# Altium footprint library Con IDC.PcbLib: 105 footprints (part 2 of 7)
Each footprint in its own frame and in the unit in brackets; x right, y up, seen from the top. Pads: shape width x height; smd on the part's side, far side on the other; paste and mask are expansions set on the pad; w line width, h text height; cw(c..) or ccw(c..) is an arc to the next point about the centre after c.
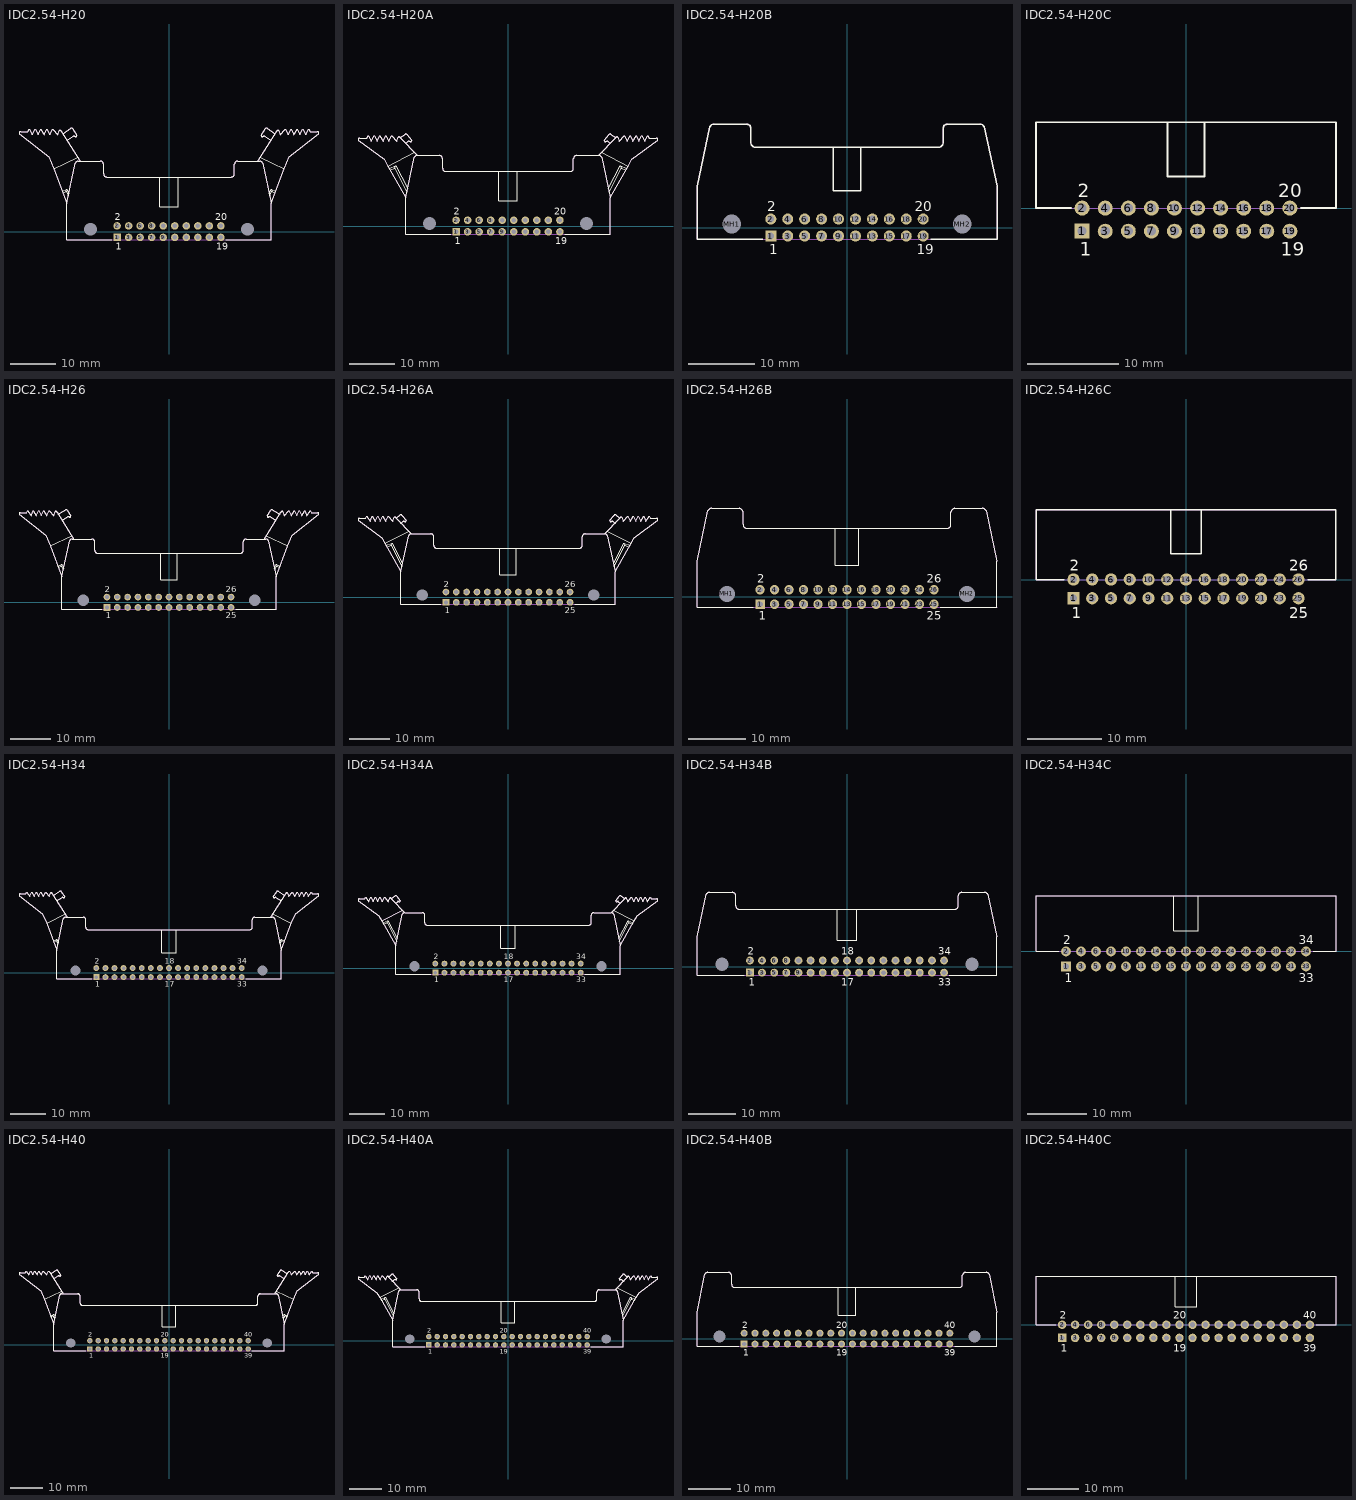
[diagram p1: the footprints below, top view; thin cyan lines are the x and y axes]

## IDC2.54-H20 [mm] "Connector; IDC, Thru-Hole; 20 Position; Right Angle; Pitch 2.54 mm; Body 45.00 x 8.5 x 25.75 mm (LxHxW), Locking levers"
height 8.5
pads (22):
  rect 1.65x1.65 hole 1: 1(-11.43,-1.27)
  round 1.65 hole 1: 2(-11.43,1.27) 3(-8.89,-1.27) 4(-8.89,1.27) 5(-6.35,-1.27) 6(-6.35,1.27) 7(-3.81,-1.27) 8(-3.81,1.27) 9(-1.27,-1.27) 10(-1.27,1.27) 11(1.27,-1.27) 12(1.27,1.27) 13(3.81,-1.27) 14(3.81,1.27) 15(6.35,-1.27) 16(6.35,1.27) 17(8.89,-1.27) 18(8.89,1.27) 19(11.43,-1.27) 20(11.43,1.27)
  round 2.5 hole 2.8 unplated: MH1(-17.27,0.53) MH2(17.27,0.53)
Top Overlay:
  lines w0.2: -23.47,8.851 -22.505,9.3 ; -23.341,8.563 -22.67,8.877 ; -23.335,21.6 -21.612,22.725 cw(c-21.463,22.387) -21.197,22.644 -20.272,21.245 cw(c-20.592,21.225) -20.644,20.91 ccw(c-20.912,20.595) -21.047,20.985 ; -22.413,20.103 -21.05,20.991 ; -22.143,7.925 -22.67,8.877 ; -22.043,8.378 -22.505,9.3 ; -20.61,15.102 -22.5,6.23 ; -20.61,15.102 cw(c-19.965,14.83) -19.95,15.53 ; -20.115,16.383 -25.339,13.84 ; -19.94,15.53 -15.115,15.53 ; -19.544,15.53 -23.678,22.058 ccw(c-24.001,21.956) -24.143,22.265 -24.55,21.301 -25.58,22.501 -26.21,21.301 -26.96,22.501 -27.51,21.301 -28.21,22.501 -28.83,21.301 -29.48,22.501 -30.08,21.301 -30.825,22.501 ; -15.115,15.53 cw(c-15.115,14.83) -14.415,14.83 -14.415,12.73 ccw(c-13.715,12.73) -13.715,12.03 13.715,12.03 ccw(c13.715,12.73) 14.415,12.73 14.415,14.83 cw(c15.115,14.83) 15.115,15.53 19.94,15.53 ; -12.655,-1.77 -22.5,-1.77 -22.5,6.23 ; -2.05,5.53 -2.05,12.03 ; -2.04,5.53 2.06,5.53 ; 2.05,5.534 2.05,12.03 ; 12.54,-1.77 22.5,-1.77 22.5,6.23 ; 19.544,15.53 23.678,22.058 cw(c24.001,21.956) 24.143,22.265 24.55,21.301 25.58,22.501 26.21,21.301 26.96,22.501 27.51,21.301 28.21,22.501 28.83,21.301 29.48,22.501 30.08,21.301 30.825,22.501 ; 19.95,15.53 cw(c19.965,14.83) 20.61,15.102 22.5,6.23 ; 20.115,16.383 25.339,13.84 ; 21.047,20.985 ccw(c20.912,20.595) 20.644,20.91 cw(c20.592,21.225) 20.272,21.245 21.197,22.644 cw(c21.463,22.387) 21.612,22.725 23.335,21.6 ; 21.05,20.991 22.413,20.103 ; 22.043,8.378 22.505,9.3 ; 22.143,7.925 22.67,8.877 ; 23.341,8.563 22.67,8.877 ; 23.47,8.851 22.505,9.3 ; -31.08,22.03 -32.691,22.03 ccw(c-32.691,21.69) -33,21.549 -26.465,16.455 -25.339,13.84 ; -31.08,22.03 -30.825,22.501 ; -31.08,22.03 -30.825,22.501 ; -25.339,13.84 -22.5,6.23 ; -22.67,8.877 -22.505,9.3 ; 22.5,6.23 25.339,13.84 ; 22.505,9.3 22.67,8.877 ; 25.339,13.84 26.465,16.455 33,21.549 ccw(c32.691,21.69) 32.691,22.03 31.08,22.03 ; 30.825,22.501 31.08,22.03 ; 30.825,22.501 31.08,22.03
  text "2" at -11.93,2.47 h1.5
  text "1" at -11.68,-3.97 h1.5
  text "20" at 10.18,2.47 h1.5
  text "19" at 10.43,-3.97 h1.5
Mechanical 13:
  lines w0.1: -23.335,21.6 -21.612,22.725 cw(c-21.463,22.387) -21.197,22.644 -20.272,21.245 cw(c-20.592,21.225) -20.644,20.91 ccw(c-20.912,20.595) -21.047,20.985 ; -22.413,20.103 -21.05,20.991 ; -20.61,15.102 -22.5,6.23 ; -20.61,15.102 cw(c-19.965,14.83) -19.95,15.53 ; -19.94,15.53 -15.115,15.53 ; -19.544,15.53 -23.678,22.058 ccw(c-24.001,21.956) -24.143,22.265 -24.55,21.301 -25.58,22.501 -26.21,21.301 -26.96,22.501 -27.51,21.301 -28.21,22.501 -28.83,21.301 -29.48,22.501 -30.08,21.301 -30.825,22.501 ; -15.115,15.53 cw(c-15.115,14.83) -14.415,14.83 -14.415,12.73 ccw(c-13.715,12.73) -13.715,12.03 13.715,12.03 ccw(c13.715,12.73) 14.415,12.73 14.415,14.83 cw(c15.115,14.83) 15.115,15.53 19.94,15.53 ; 19.544,15.53 23.678,22.058 cw(c24.001,21.956) 24.143,22.265 24.55,21.301 25.58,22.501 26.21,21.301 26.96,22.501 27.51,21.301 28.21,22.501 28.83,21.301 29.48,22.501 30.08,21.301 30.825,22.501 ; 19.95,15.53 cw(c19.965,14.83) 20.61,15.102 22.5,6.23 ; 21.047,20.985 ccw(c20.912,20.595) 20.644,20.91 cw(c20.592,21.225) 20.272,21.245 21.197,22.644 cw(c21.463,22.387) 21.612,22.725 23.335,21.6 ; 21.05,20.991 22.413,20.103 ; -31.08,22.03 -30.825,22.501 ; -31.08,22.03 -32.691,22.03 ccw(c-32.691,21.69) -33,21.549 -26.465,16.455 -25.339,13.84 -22.5,6.23 ; -31.08,22.03 -30.825,22.501 ; -22.5,6.23 -22.5,-1.77 22.5,-1.77 22.5,6.23 ; 22.5,6.23 25.339,13.84 26.465,16.455 33,21.549 ccw(c32.691,21.69) 32.691,22.03 31.08,22.03 ; 30.825,22.501 31.08,22.03 ; 30.825,22.501 31.08,22.03
3D body: height 8.5, standoff 0, extent -22.501,-1.771 22.501,15.537

## IDC2.54-H20A [mm] "Connector; IDC, Thru-Hole; 20 Position; Right Angle; Pitch 2.54 mm; Body 45.00 x 8.5 x 23.30 mm (LxHxW), Locking levers"
height 8.5
pads (22):
  rect 1.65x1.65 hole 1: 1(-11.43,-1.27)
  round 1.65 hole 1: 2(-11.43,1.27) 3(-8.89,-1.27) 4(-8.89,1.27) 5(-6.35,-1.27) 6(-6.35,1.27) 7(-3.81,-1.27) 8(-3.81,1.27) 9(-1.27,-1.27) 10(-1.27,1.27) 11(1.27,-1.27) 12(1.27,1.27) 13(3.81,-1.27) 14(3.81,1.27) 15(6.35,-1.27) 16(6.35,1.27) 17(8.89,-1.27) 18(8.89,1.27) 19(11.43,-1.27) 20(11.43,1.27)
  round 2.5 hole 2.8 unplated: MH1(-17.27,0.53) MH2(17.27,0.53)
Top Overlay:
  lines w0.2: -26.169,12.722 -24.681,13.218 ; -25.941,12.377 -24.923,12.716 ; -22.538,18.198 -21.973,18.617 cw(c-21.837,18.227) -21.57,18.542 ccw(c-21.517,18.857) -21.198,18.877 -22.257,20.156 ccw(c-22.523,19.899) -22.672,20.238 -23.678,19.388 ; -22.253,7.442 -24.923,12.716 ; -22.106,8.195 -24.681,13.218 ; -20.62,16.204 -26.439,13.199 ; -20.007,15.533 -23.678,19.388 ; -20,15.53 -15.115,15.53 cw(c-15.115,14.83) -14.415,14.83 -14.415,12.73 ccw(c-13.715,12.73) -13.715,12.03 13.715,12.03 ccw(c13.715,12.73) 14.415,12.73 14.415,14.83 cw(c15.115,14.83) 15.115,15.53 20,15.53 ; -19.95,15.53 ccw(c-19.965,14.83) -20.61,15.102 -22.5,6.23 ; -12.655,-1.77 -22.5,-1.77 -22.5,6.23 ; -2.05,5.53 -2.05,12.03 ; -2.04,5.53 2.06,5.53 ; 2.05,5.534 2.05,12.03 ; 12.54,-1.77 22.5,-1.77 22.5,6.23 ; 19.95,15.53 cw(c19.965,14.83) 20.61,15.102 22.5,6.23 ; 20.007,15.533 23.678,19.388 ; 20.62,16.204 26.439,13.199 ; 22.106,8.195 24.681,13.218 ; 22.253,7.442 24.923,12.716 ; 22.538,18.198 21.973,18.617 ccw(c21.837,18.227) 21.57,18.542 cw(c21.517,18.857) 21.198,18.877 22.257,20.156 cw(c22.523,19.899) 22.672,20.238 23.678,19.388 ; 25.941,12.377 24.923,12.716 ; 26.169,12.722 24.681,13.218 ; -31.08,19.359 -30.824,19.83 ; -31.08,19.359 -30.824,19.83 ; -31.08,19.359 -32.691,19.359 ccw(c-32.691,19.02) -33,18.879 -27.245,14.654 -26.439,13.199 ; -30.824,19.83 -30.08,18.63 -29.48,19.83 -28.83,18.63 -28.21,19.83 -27.51,18.63 -26.96,19.83 -26.21,18.63 -25.58,19.83 -24.55,18.63 -24.143,19.594 cw(c-24.001,19.285) -23.678,19.388 ; -26.439,13.199 -22.5,6.23 ; -24.923,12.716 -24.681,13.218 ; 22.5,6.23 26.439,13.199 ; 23.678,19.388 cw(c24.001,19.285) 24.143,19.594 24.55,18.63 25.58,19.83 26.21,18.63 26.96,19.83 27.51,18.63 28.21,19.83 28.83,18.63 29.48,19.83 30.08,18.63 30.824,19.83 ; 24.681,13.218 24.923,12.716 ; 26.439,13.199 27.245,14.654 33,18.879 ccw(c32.691,19.02) 32.691,19.359 31.08,19.359 ; 30.824,19.83 31.08,19.359 ; 30.824,19.83 31.08,19.359
  text "2" at -11.93,2.47 h1.5
  text "1" at -11.68,-3.97 h1.5
  text "20" at 10.18,2.47 h1.5
  text "19" at 10.43,-3.97 h1.5
Mechanical 13:
  lines w0.1: -22.538,18.198 -21.973,18.617 cw(c-21.837,18.227) -21.57,18.542 ccw(c-21.517,18.857) -21.198,18.877 -22.257,20.156 ccw(c-22.523,19.899) -22.672,20.238 -23.678,19.388 ; -20.007,15.533 -23.678,19.388 ; -20,15.53 -15.115,15.53 cw(c-15.115,14.83) -14.415,14.83 -14.415,12.73 ccw(c-13.715,12.73) -13.715,12.03 13.715,12.03 ccw(c13.715,12.73) 14.415,12.73 14.415,14.83 cw(c15.115,14.83) 15.115,15.53 20,15.53 ; -19.95,15.53 ccw(c-19.965,14.83) -20.61,15.102 -22.5,6.23 ; 19.95,15.53 cw(c19.965,14.83) 20.61,15.102 22.5,6.23 ; 20.007,15.533 23.678,19.388 ; 22.538,18.198 21.973,18.617 ccw(c21.837,18.227) 21.57,18.542 cw(c21.517,18.857) 21.198,18.877 22.257,20.156 cw(c22.523,19.899) 22.672,20.238 23.678,19.388 ; -31.08,19.359 -30.824,19.83 ; -31.08,19.359 -32.691,19.359 ccw(c-32.691,19.02) -33,18.879 -27.245,14.654 -26.439,13.199 -22.5,6.23 ; -31.08,19.359 -30.824,19.83 ; -30.824,19.83 -30.08,18.63 -29.48,19.83 -28.83,18.63 -28.21,19.83 -27.51,18.63 -26.96,19.83 -26.21,18.63 -25.58,19.83 -24.55,18.63 -24.143,19.594 cw(c-24.001,19.285) -23.678,19.388 ; -22.5,6.23 -22.5,-1.77 22.5,-1.77 22.5,6.23 ; 22.5,6.23 26.439,13.199 27.245,14.654 33,18.879 ccw(c32.691,19.02) 32.691,19.359 31.08,19.359 ; 23.678,19.388 cw(c24.001,19.285) 24.143,19.594 24.55,18.63 25.58,19.83 26.21,18.63 26.96,19.83 27.51,18.63 28.21,19.83 28.83,18.63 29.48,19.83 30.08,18.63 30.824,19.83 ; 30.824,19.83 31.08,19.359 ; 30.824,19.83 31.08,19.359
3D body: height 8.5, standoff 0, extent -22.501,-1.771 22.501,15.537

## IDC2.54-H20B [mm] "Connector; IDC, Thru-Hole; 20 Position; Right Angle; Pitch 2.54 mm; Body 45.00 x 8.5 x 17.30 mm (LxHxW), Without locking levers"
height 8.5
pads (22):
  rect 1.65x1.65 hole 1: 1(-11.43,-1.27)
  round 1.65 hole 1: 2(-11.43,1.27) 3(-8.89,-1.27) 4(-8.89,1.27) 5(-6.35,-1.27) 6(-6.35,1.27) 7(-3.81,-1.27) 8(-3.81,1.27) 9(-1.27,-1.27) 10(-1.27,1.27) 11(1.27,-1.27) 12(1.27,1.27) 13(3.81,-1.27) 14(3.81,1.27) 15(6.35,-1.27) 16(6.35,1.27) 17(8.89,-1.27) 18(8.89,1.27) 19(11.43,-1.27) 20(11.43,1.27)
  round 2.5 hole 2.8 unplated: MH1(-17.27,0.53) MH2(17.27,0.53)
Top Overlay:
  lines w0.2: -12.655,-1.77 -22.5,-1.77 -22.5,6.23 -20.6,15.102 cw(c-19.955,14.83) -19.94,15.53 -15.115,15.53 cw(c-15.115,14.83) -14.415,14.83 -14.415,12.73 ccw(c-13.715,12.73) -13.715,12.03 13.715,12.03 ccw(c13.715,12.73) 14.415,12.73 14.415,14.83 cw(c15.115,14.83) 15.115,15.53 19.94,15.53 cw(c19.955,14.83) 20.6,15.102 22.5,6.23 22.5,-1.77 12.54,-1.77 ; -2.05,5.53 -2.05,12.03 ; -2.04,5.53 2.06,5.53 ; 2.05,5.534 2.05,12.03
  text "19" at 10.43,-3.97 h1.5
  text "20" at 10.18,2.47 h1.5
  text "1" at -11.68,-3.97 h1.5
  text "2" at -11.93,2.47 h1.5
Mechanical 13:
  lines w0.1: -22.5,-1.77 22.5,-1.77 22.5,6.23 20.6,15.102 ccw(c19.955,14.83) 19.94,15.53 15.115,15.53 ccw(c15.115,14.83) 14.415,14.83 14.415,12.73 cw(c13.715,12.73) 13.715,12.03 -13.715,12.03 cw(c-13.715,12.73) -14.415,12.73 -14.415,14.83 ccw(c-15.115,14.83) -15.115,15.53 -19.94,15.53 ccw(c-19.955,14.83) -20.6,15.102 -22.5,6.23 -22.5,-1.77
3D body: height 8.5, standoff 0, extent -22.501,-1.771 22.501,15.537

## IDC2.54-H20C [mm] "Connector; IDC, Low Profile Male Header, Thru-Hole; 20 Position; Right Angle; Pitch 2.54 mm; Body 33.02 x 8.9 x 9.2 mm (LxWxH)"
height 9.2
pads (20):
  rect 1.65x1.65 hole 1: 1(-11.43,-2.54)
  round 1.65 hole 1: 2(-11.43,0) 3(-8.89,-2.54) 4(-8.89,0) 5(-6.35,-2.54) 6(-6.35,0) 7(-3.81,-2.54) 8(-3.81,0) 9(-1.27,-2.54) 10(-1.27,0) 11(1.27,-2.54) 12(1.27,0) 13(3.81,-2.54) 14(3.81,0) 15(6.35,-2.54) 16(6.35,0) 17(8.89,-2.54) 18(8.89,0) 19(11.43,-2.54) 20(11.43,0)
Top Overlay:
  lines w0.2: -12.655,0 -16.51,0 -16.51,9.45 16.51,9.45 16.51,0 12.655,0 ; -2.05,9.45 -2.05,3.48 2.05,3.48 2.05,9.45
  text "19" at 10.43,-5.24 h1.5
  text "20" at 10.18,1.2 h1.5
  text "1" at -11.68,-5.24 h1.5
  text "2" at -11.93,1.2 h1.5
Mechanical 13:
  lines w0.1: -16.51,0 16.51,0 16.51,9.45 -16.51,9.45 -16.51,0
3D body: height 9.2, standoff 0, extent -16.51,0 16.51,9.45

## IDC2.54-H26 [mm] "Connector; IDC, Thru-Hole; 26 Position; Right Angle; Pitch 2.54 mm; Body 52.60 x 8.5 x 25.75 mm (LxHxW), Locking levers"
height 8.5
pads (28):
  rect 1.65x1.65 hole 1: 1(-15.24,-1.27)
  round 1.65 hole 1: 2(-15.24,1.27) 3(-12.7,-1.27) 4(-12.7,1.27) 5(-10.16,-1.27) 6(-10.16,1.27) 7(-7.62,-1.27) 8(-7.62,1.27) 9(-5.08,-1.27) 10(-5.08,1.27) 11(-2.54,-1.27) 12(-2.54,1.27) 13(0,-1.27) 14(0,1.27) 15(2.54,-1.27) 16(2.54,1.27) 17(5.08,-1.27) 18(5.08,1.27) 19(7.62,-1.27) 20(7.62,1.27) 21(10.16,-1.27) 22(10.16,1.27) 23(12.7,-1.27) 24(12.7,1.27) 25(15.24,-1.27) 26(15.24,1.27)
  round 2.5 hole 2.8 unplated: MH1(-21.08,0.53) MH2(21.08,0.53)
Top Overlay:
  lines w0.2: -27.27,8.851 -26.305,9.3 ; -27.141,8.563 -26.47,8.877 ; -27.135,21.6 -25.412,22.725 cw(c-25.263,22.387) -24.997,22.644 -24.072,21.245 cw(c-24.392,21.225) -24.444,20.91 ccw(c-24.712,20.595) -24.847,20.985 ; -26.213,20.103 -24.85,20.991 ; -25.943,7.925 -26.47,8.877 ; -25.843,8.378 -26.305,9.3 ; -23.915,16.383 -29.139,13.84 ; -23.344,15.53 -27.478,22.058 ccw(c-27.801,21.956) -27.943,22.265 -28.35,21.301 -29.38,22.501 -30.01,21.301 -30.76,22.501 -31.31,21.301 -32.01,22.501 -32.63,21.301 -33.28,22.501 -33.88,21.301 -34.625,22.501 ; -18.925,15.53 cw(c-18.925,14.83) -18.225,14.83 -18.225,12.73 ccw(c-17.525,12.73) -17.525,12.03 17.525,12.03 ccw(c17.525,12.73) 18.225,12.73 18.225,14.83 cw(c18.925,14.83) 18.925,15.53 23.75,15.53 cw(c23.765,14.83) 24.41,15.102 26.3,6.23 ; -18.925,15.53 -23.75,15.53 ccw(c-23.765,14.83) -24.41,15.102 -26.3,6.23 ; -16.465,-1.77 -26.3,-1.77 -26.3,6.23 ; -2.05,5.53 -2.05,12.03 ; -2.04,5.53 2.06,5.53 ; 2.05,5.534 2.05,12.03 ; 16.35,-1.77 26.3,-1.77 26.3,6.23 ; 23.344,15.53 27.478,22.058 cw(c27.801,21.956) 27.943,22.265 28.35,21.301 29.38,22.501 30.01,21.301 30.76,22.501 31.31,21.301 32.01,22.501 32.63,21.301 33.28,22.501 33.88,21.301 34.624,22.501 ; 23.915,16.383 29.139,13.84 ; 24.847,20.985 ccw(c24.712,20.595) 24.444,20.91 cw(c24.392,21.225) 24.072,21.245 24.997,22.644 cw(c25.263,22.387) 25.412,22.725 27.135,21.6 ; 24.85,20.991 26.213,20.103 ; 25.843,8.378 26.305,9.3 ; 25.943,7.925 26.47,8.877 ; 27.141,8.563 26.47,8.877 ; 27.27,8.851 26.305,9.3 ; -34.88,22.03 -36.491,22.03 ccw(c-36.491,21.69) -36.8,21.549 -30.265,16.455 -29.139,13.84 ; -34.88,22.03 -34.625,22.501 ; -34.88,22.03 -34.625,22.501 ; -29.139,13.84 -26.3,6.23 ; -26.47,8.877 -26.305,9.3 ; 26.3,6.23 29.139,13.84 ; 26.305,9.3 26.47,8.877 ; 29.139,13.84 30.265,16.455 36.8,21.549 ccw(c36.491,21.69) 36.491,22.03 34.88,22.03 ; 34.624,22.501 34.88,22.03 ; 34.624,22.501 34.88,22.03
  text "2" at -15.74,2.47 h1.5
  text "1" at -15.49,-3.97 h1.5
  text "26" at 13.99,2.47 h1.5
  text "25" at 13.99,-3.97 h1.5
Mechanical 13:
  lines w0.1: -27.135,21.6 -25.412,22.725 cw(c-25.263,22.387) -24.997,22.644 -24.072,21.245 cw(c-24.392,21.225) -24.444,20.91 ccw(c-24.712,20.595) -24.847,20.985 ; -26.213,20.103 -24.85,20.991 ; -23.344,15.53 -27.478,22.058 ccw(c-27.801,21.956) -27.943,22.265 -28.35,21.301 -29.38,22.501 -30.01,21.301 -30.76,22.501 -31.31,21.301 -32.01,22.501 -32.63,21.301 -33.28,22.501 -33.88,21.301 -34.625,22.501 ; -18.925,15.53 cw(c-18.925,14.83) -18.225,14.83 -18.225,12.73 ccw(c-17.525,12.73) -17.525,12.03 17.525,12.03 ccw(c17.525,12.73) 18.225,12.73 18.225,14.83 cw(c18.925,14.83) 18.925,15.53 23.75,15.53 cw(c23.765,14.83) 24.41,15.102 26.3,6.23 ; -18.925,15.53 -23.75,15.53 ccw(c-23.765,14.83) -24.41,15.102 -26.3,6.23 ; 23.344,15.53 27.478,22.058 cw(c27.801,21.956) 27.943,22.265 28.35,21.301 29.38,22.501 30.01,21.301 30.76,22.501 31.31,21.301 32.01,22.501 32.63,21.301 33.28,22.501 33.88,21.301 34.624,22.501 ; 24.847,20.985 ccw(c24.712,20.595) 24.444,20.91 cw(c24.392,21.225) 24.072,21.245 24.997,22.644 cw(c25.263,22.387) 25.412,22.725 27.135,21.6 ; 24.85,20.991 26.213,20.103 ; -34.88,22.03 -34.625,22.501 ; -34.88,22.03 -36.491,22.03 ccw(c-36.491,21.69) -36.8,21.549 -30.265,16.455 -29.139,13.84 -26.3,6.23 ; -34.88,22.03 -34.625,22.501 ; -26.3,6.23 -26.3,-1.77 26.3,-1.77 26.3,6.23 ; 26.3,6.23 29.139,13.84 30.265,16.455 36.8,21.549 ccw(c36.491,21.69) 36.491,22.03 34.88,22.03 ; 34.624,22.501 34.88,22.03 ; 34.624,22.501 34.88,22.03
3D body: height 8.5, standoff 0, extent -26.301,-1.771 26.301,15.537

## IDC2.54-H26A [mm] "Connector; IDC, Thru-Hole; 26 Position; Right Angle; Pitch 2.54 mm; Body 52.60 x 8.5 x 23.30 mm (LxHxW), Locking levers"
height 8.5
pads (28):
  rect 1.65x1.65 hole 1: 1(-15.24,-1.27)
  round 1.65 hole 1: 2(-15.24,1.27) 3(-12.7,-1.27) 4(-12.7,1.27) 5(-10.16,-1.27) 6(-10.16,1.27) 7(-7.62,-1.27) 8(-7.62,1.27) 9(-5.08,-1.27) 10(-5.08,1.27) 11(-2.54,-1.27) 12(-2.54,1.27) 13(0,-1.27) 14(0,1.27) 15(2.54,-1.27) 16(2.54,1.27) 17(5.08,-1.27) 18(5.08,1.27) 19(7.62,-1.27) 20(7.62,1.27) 21(10.16,-1.27) 22(10.16,1.27) 23(12.7,-1.27) 24(12.7,1.27) 25(15.24,-1.27) 26(15.24,1.27)
  round 2.5 hole 2.8 unplated: MH1(-21.08,0.53) MH2(21.08,0.53)
Top Overlay:
  lines w0.2: -29.969,12.722 -28.481,13.218 ; -29.741,12.377 -28.723,12.716 ; -26.338,18.198 -25.773,18.617 cw(c-25.637,18.227) -25.37,18.542 ccw(c-25.317,18.857) -24.998,18.877 -26.057,20.156 ccw(c-26.323,19.899) -26.472,20.238 -27.478,19.388 ; -26.053,7.442 -28.723,12.716 ; -25.906,8.195 -28.481,13.218 ; -24.42,16.204 -30.239,13.199 ; -23.807,15.533 -27.478,19.388 ; -18.925,15.53 cw(c-18.925,14.83) -18.225,14.83 -18.225,12.73 ccw(c-17.525,12.73) -17.525,12.03 17.525,12.03 ccw(c17.525,12.73) 18.225,12.73 18.225,14.83 cw(c18.925,14.83) 18.925,15.53 23.75,15.53 cw(c23.765,14.83) 24.41,15.102 26.3,6.23 ; -18.925,15.53 -23.75,15.53 ccw(c-23.765,14.83) -24.41,15.102 -26.3,6.23 ; -16.465,-1.77 -26.3,-1.77 -26.3,6.23 ; -2.05,5.53 -2.05,12.03 ; -2.04,5.53 2.06,5.53 ; 2.05,5.534 2.05,12.03 ; 16.35,-1.77 26.3,-1.77 26.3,6.23 ; 23.807,15.533 27.478,19.388 ; 24.42,16.204 30.239,13.199 ; 25.906,8.195 28.481,13.218 ; 26.053,7.442 28.723,12.716 ; 26.338,18.198 25.773,18.617 ccw(c25.637,18.227) 25.37,18.542 cw(c25.317,18.857) 24.998,18.877 26.057,20.156 cw(c26.323,19.899) 26.472,20.238 27.478,19.388 ; 29.741,12.377 28.723,12.716 ; 29.969,12.722 28.481,13.218 ; -34.88,19.359 -34.624,19.83 ; -34.88,19.359 -34.624,19.83 ; -34.88,19.359 -36.491,19.359 ccw(c-36.491,19.02) -36.8,18.879 -31.045,14.654 -30.239,13.199 ; -34.624,19.83 -33.88,18.63 -33.28,19.83 -32.63,18.63 -32.01,19.83 -31.31,18.63 -30.76,19.83 -30.01,18.63 -29.38,19.83 -28.35,18.63 -27.943,19.594 cw(c-27.801,19.285) -27.478,19.388 ; -30.239,13.199 -26.3,6.23 ; -28.723,12.716 -28.481,13.218 ; 26.3,6.23 30.239,13.199 ; 27.478,19.388 cw(c27.801,19.285) 27.943,19.594 28.35,18.63 29.38,19.83 30.01,18.63 30.76,19.83 31.31,18.63 32.01,19.83 32.63,18.63 33.28,19.83 33.88,18.63 34.624,19.83 ; 28.481,13.218 28.723,12.716 ; 30.239,13.199 31.045,14.654 36.8,18.879 ccw(c36.491,19.02) 36.491,19.359 34.88,19.359 ; 34.624,19.83 34.88,19.359 ; 34.624,19.83 34.88,19.359
  text "2" at -15.74,2.47 h1.5
  text "1" at -15.49,-3.97 h1.5
  text "26" at 13.99,2.47 h1.5
  text "25" at 13.99,-3.97 h1.5
Mechanical 13:
  lines w0.1: -26.338,18.198 -25.773,18.617 cw(c-25.637,18.227) -25.37,18.542 ccw(c-25.317,18.857) -24.998,18.877 -26.057,20.156 ccw(c-26.323,19.899) -26.472,20.238 -27.478,19.388 ; -23.807,15.533 -27.478,19.388 ; -18.925,15.53 cw(c-18.925,14.83) -18.225,14.83 -18.225,12.73 ccw(c-17.525,12.73) -17.525,12.03 17.525,12.03 ccw(c17.525,12.73) 18.225,12.73 18.225,14.83 cw(c18.925,14.83) 18.925,15.53 23.75,15.53 cw(c23.765,14.83) 24.41,15.102 26.3,6.23 ; -18.925,15.53 -23.75,15.53 ccw(c-23.765,14.83) -24.41,15.102 -26.3,6.23 ; 23.807,15.533 27.478,19.388 ; 26.338,18.198 25.773,18.617 ccw(c25.637,18.227) 25.37,18.542 cw(c25.317,18.857) 24.998,18.877 26.057,20.156 cw(c26.323,19.899) 26.472,20.238 27.478,19.388 ; -34.88,19.359 -34.624,19.83 ; -34.88,19.359 -36.491,19.359 ccw(c-36.491,19.02) -36.8,18.879 -31.045,14.654 -30.239,13.199 -26.3,6.23 ; -34.88,19.359 -34.624,19.83 ; -34.624,19.83 -33.88,18.63 -33.28,19.83 -32.63,18.63 -32.01,19.83 -31.31,18.63 -30.76,19.83 -30.01,18.63 -29.38,19.83 -28.35,18.63 -27.943,19.594 cw(c-27.801,19.285) -27.478,19.388 ; -26.3,6.23 -26.3,-1.77 26.3,-1.77 26.3,6.23 ; 26.3,6.23 30.239,13.199 31.045,14.654 36.8,18.879 ccw(c36.491,19.02) 36.491,19.359 34.88,19.359 ; 27.478,19.388 cw(c27.801,19.285) 27.943,19.594 28.35,18.63 29.38,19.83 30.01,18.63 30.76,19.83 31.31,18.63 32.01,19.83 32.63,18.63 33.28,19.83 33.88,18.63 34.624,19.83 ; 34.624,19.83 34.88,19.359 ; 34.624,19.83 34.88,19.359
3D body: height 8.5, standoff 0, extent -26.301,-1.771 26.301,15.537

## IDC2.54-H26B [mm] "Connector; IDC, Thru-Hole; 26 Position; Right Angle; Pitch 2.54 mm; Body 52.60 x 8.5 x 17.30 mm (LxHxW), Without locking levers"
height 8.5
pads (28):
  rect 1.65x1.65 hole 1: 1(-15.24,-1.27)
  round 1.65 hole 1: 2(-15.24,1.27) 3(-12.7,-1.27) 4(-12.7,1.27) 5(-10.16,-1.27) 6(-10.16,1.27) 7(-7.62,-1.27) 8(-7.62,1.27) 9(-5.08,-1.27) 10(-5.08,1.27) 11(-2.54,-1.27) 12(-2.54,1.27) 13(0,-1.27) 14(0,1.27) 15(2.54,-1.27) 16(2.54,1.27) 17(5.08,-1.27) 18(5.08,1.27) 19(7.62,-1.27) 20(7.62,1.27) 21(10.16,-1.27) 22(10.16,1.27) 23(12.7,-1.27) 24(12.7,1.27) 25(15.24,-1.27) 26(15.24,1.27)
  round 2.5 hole 2.8 unplated: MH1(-21.08,0.53) MH2(21.08,0.53)
Top Overlay:
  lines w0.2: -18.925,15.53 cw(c-18.925,14.83) -18.225,14.83 -18.225,12.73 ccw(c-17.525,12.73) -17.525,12.03 17.525,12.03 ccw(c17.525,12.73) 18.225,12.73 18.225,14.83 cw(c18.925,14.83) 18.925,15.53 23.75,15.53 cw(c23.765,14.83) 24.41,15.102 26.3,6.23 26.3,-1.77 16.35,-1.77 ; -18.925,15.53 -23.75,15.53 ccw(c-23.765,14.83) -24.41,15.102 -26.3,6.23 -26.3,-1.77 -16.465,-1.77 ; -2.05,5.53 -2.05,12.03 ; -2.04,5.53 2.06,5.53 ; 2.05,5.534 2.05,12.03
  text "2" at -15.74,2.47 h1.5
  text "1" at -15.49,-3.97 h1.5
  text "26" at 13.99,2.47 h1.5
  text "25" at 13.99,-3.97 h1.5
Mechanical 13:
  lines w0.1: -18.925,15.53 cw(c-18.925,14.83) -18.225,14.83 -18.225,12.73 ccw(c-17.525,12.73) -17.525,12.03 17.525,12.03 ccw(c17.525,12.73) 18.225,12.73 18.225,14.83 cw(c18.925,14.83) 18.925,15.53 23.75,15.53 cw(c23.765,14.83) 24.41,15.102 26.3,6.23 26.3,-1.77 -26.3,-1.77 -26.3,6.23 -24.41,15.102 cw(c-23.765,14.83) -23.75,15.53 -18.925,15.53
3D body: height 8.5, standoff 0, extent -26.301,-1.771 26.301,15.537

## IDC2.54-H26C [mm] "Connector; IDC, Low Profile Male Header, Thru-Hole; 26 Position; Right Angle; Pitch 2.54 mm; Body 40.64 x 8.9 x 9.2 mm (LxWxH)"
height 9.2
pads (26):
  rect 1.65x1.65 hole 1: 1(-15.24,-2.54)
  round 1.65 hole 1: 2(-15.24,0) 3(-12.7,-2.54) 4(-12.7,0) 5(-10.16,-2.54) 6(-10.16,0) 7(-7.62,-2.54) 8(-7.62,0) 9(-5.08,-2.54) 10(-5.08,0) 11(-2.54,-2.54) 12(-2.54,0) 13(0,-2.54) 14(0,0) 15(2.54,-2.54) 16(2.54,0) 17(5.08,-2.54) 18(5.08,0) 19(7.62,-2.54) 20(7.62,0) 21(10.16,-2.54) 22(10.16,0) 23(12.7,-2.54) 24(12.7,0) 25(15.24,-2.54) 26(15.24,0)
Top Overlay:
  lines w0.2: -16.465,0 -20.32,0 -20.32,9.45 20.32,9.45 20.32,0 16.465,0 ; -2.05,9.45 -2.05,3.48 2.05,3.48 2.05,9.45
  text "2" at -15.74,1.2 h1.5
  text "1" at -15.49,-5.24 h1.5
  text "26" at 13.99,1.2 h1.5
  text "25" at 13.99,-5.24 h1.5
Mechanical 13:
  lines w0.1: -20.32,0 -20.32,9.45 20.32,9.45 20.32,0 -20.32,0
3D body: height 9.2, standoff 0, extent -20.32,0 20.32,9.45

## IDC2.54-H34 [mm] "Connector; IDC, Thru-Hole; 34 Position; Right Angle; Pitch 2.54 mm; Body 62.80 x 8.5 x 25.75 mm (LxHxW), Locking levers"
height 8.5
pads (36):
  rect 1.65x1.65 hole 1: 1(-20.32,-1.27)
  round 1.65 hole 1: 2(-20.32,1.27) 3(-17.78,-1.27) 4(-17.78,1.27) 5(-15.24,-1.27) 6(-15.24,1.27) 7(-12.7,-1.27) 8(-12.7,1.27) 9(-10.16,-1.27) 10(-10.16,1.27) 11(-7.62,-1.27) 12(-7.62,1.27) 13(-5.08,-1.27) 14(-5.08,1.27) 15(-2.54,-1.27) 16(-2.54,1.27) 17(0,-1.27) 18(0,1.27) 19(2.54,-1.27) 20(2.54,1.27) 21(5.08,-1.27) 22(5.08,1.27) 23(7.62,-1.27) 24(7.62,1.27) 25(10.16,-1.27) 26(10.16,1.27) 27(12.7,-1.27) 28(12.7,1.27) 29(15.24,-1.27) 30(15.24,1.27) 31(17.78,-1.27) 32(17.78,1.27) 33(20.32,-1.27) 34(20.32,1.27)
  round 2.5 hole 2.8 unplated: MH1(-26.16,0.53) MH2(26.16,0.53)
Top Overlay:
  lines w0.2: -32.37,8.851 -31.405,9.3 ; -32.241,8.563 -31.57,8.877 ; -32.235,21.6 -30.512,22.725 cw(c-30.363,22.387) -30.097,22.644 -29.172,21.245 cw(c-29.492,21.225) -29.544,20.91 ccw(c-29.812,20.595) -29.947,20.985 ; -31.313,20.103 -29.95,20.991 ; -31.043,7.925 -31.57,8.877 ; -30.943,8.378 -31.405,9.3 ; -29.015,16.383 -34.239,13.84 ; -28.444,15.53 -32.578,22.058 ccw(c-32.901,21.956) -33.043,22.265 -33.45,21.301 -34.48,22.501 -35.11,21.301 -35.86,22.501 -36.41,21.301 -37.11,22.501 -37.73,21.301 -38.38,22.501 -38.98,21.301 -39.725,22.501 ; -21.545,-1.77 -31.4,-1.77 -31.4,6.23 ; -2.05,5.53 -2.05,12.03 ; -2.04,5.53 2.06,5.53 ; 2.05,5.534 2.05,12.03 ; 21.43,-1.77 31.4,-1.77 31.4,6.23 ; 28.444,15.53 32.578,22.058 cw(c32.901,21.956) 33.043,22.265 33.45,21.301 34.48,22.501 35.11,21.301 35.86,22.501 36.41,21.301 37.11,22.501 37.73,21.301 38.38,22.501 38.98,21.301 39.725,22.501 ; 29.015,16.383 34.239,13.84 ; 29.947,20.985 ccw(c29.812,20.595) 29.544,20.91 cw(c29.492,21.225) 29.172,21.245 30.097,22.644 cw(c30.363,22.387) 30.512,22.725 32.235,21.6 ; 29.95,20.991 31.313,20.103 ; 30.943,8.378 31.405,9.3 ; 31.043,7.925 31.57,8.877 ; 32.241,8.563 31.57,8.877 ; 32.37,8.851 31.405,9.3 ; -39.98,22.03 -41.591,22.03 ccw(c-41.591,21.69) -41.9,21.549 -35.365,16.455 -34.239,13.84 ; -39.98,22.03 -39.725,22.501 ; -39.98,22.03 -39.725,22.501 ; -34.239,13.84 -31.4,6.23 ; -31.57,8.877 -31.405,9.3 ; -31.4,6.23 -29.51,15.102 cw(c-28.865,14.83) -28.85,15.53 -24.005,15.53 cw(c-24.005,14.83) -23.305,14.83 -23.305,12.73 ccw(c-22.605,12.73) -22.605,12.03 22.605,12.03 ccw(c22.605,12.73) 23.305,12.73 23.305,14.83 cw(c24.005,14.83) 24.005,15.53 28.85,15.53 cw(c28.865,14.83) 29.51,15.102 31.4,6.23 ; 31.4,6.23 34.239,13.84 ; 31.405,9.3 31.57,8.877 ; 34.239,13.84 35.365,16.455 41.9,21.549 ccw(c41.591,21.69) 41.591,22.03 39.98,22.03 ; 39.725,22.501 39.98,22.03 ; 39.725,22.501 39.98,22.03
  text "17" at -1.25,-3.97 h1.5
  text "18" at -1.25,2.47 h1.5
  text "2" at -20.82,2.47 h1.5
  text "1" at -20.57,-3.97 h1.5
  text "34" at 19.07,2.47 h1.5
  text "33" at 19.07,-3.97 h1.5
Mechanical 13:
  lines w0.1: -32.235,21.6 -30.512,22.725 cw(c-30.363,22.387) -30.097,22.644 -29.172,21.245 cw(c-29.492,21.225) -29.544,20.91 ccw(c-29.812,20.595) -29.947,20.985 ; -31.313,20.103 -29.95,20.991 ; -28.444,15.53 -32.578,22.058 ccw(c-32.901,21.956) -33.043,22.265 -33.45,21.301 -34.48,22.501 -35.11,21.301 -35.86,22.501 -36.41,21.301 -37.11,22.501 -37.73,21.301 -38.38,22.501 -38.98,21.301 -39.725,22.501 ; 28.444,15.53 32.578,22.058 cw(c32.901,21.956) 33.043,22.265 33.45,21.301 34.48,22.501 35.11,21.301 35.86,22.501 36.41,21.301 37.11,22.501 37.73,21.301 38.38,22.501 38.98,21.301 39.725,22.501 ; 29.947,20.985 ccw(c29.812,20.595) 29.544,20.91 cw(c29.492,21.225) 29.172,21.245 30.097,22.644 cw(c30.363,22.387) 30.512,22.725 32.235,21.6 ; 29.95,20.991 31.313,20.103 ; -39.98,22.03 -39.725,22.501 ; -39.98,22.03 -39.725,22.501 ; -39.98,22.03 -41.591,22.03 ccw(c-41.591,21.69) -41.9,21.549 -35.365,16.455 -34.239,13.84 -31.4,6.23 ; -31.4,6.23 -31.4,-1.77 31.4,-1.77 31.4,6.23 ; -31.4,6.23 -29.51,15.102 cw(c-28.865,14.83) -28.85,15.53 -24.005,15.53 cw(c-24.005,14.83) -23.305,14.83 -23.305,12.73 ccw(c-22.605,12.73) -22.605,12.03 22.605,12.03 ccw(c22.605,12.73) 23.305,12.73 23.305,14.83 cw(c24.005,14.83) 24.005,15.53 28.85,15.53 cw(c28.865,14.83) 29.51,15.102 31.4,6.23 ; 31.4,6.23 34.239,13.84 35.365,16.455 41.9,21.549 ccw(c41.591,21.69) 41.591,22.03 39.98,22.03 ; 39.725,22.501 39.98,22.03 ; 39.725,22.501 39.98,22.03
3D body: height 8.5, standoff 0, extent -31.401,-1.771 31.401,15.537

## IDC2.54-H34A [mm] "Connector; IDC, Thru-Hole; 34 Position; Right Angle; Pitch 2.54 mm; Body 62.80 x 8.5 x 23.30 mm (LxHxW), Locking levers"
height 8.5
pads (36):
  rect 1.65x1.65 hole 1: 1(-20.32,-1.27)
  round 1.65 hole 1: 2(-20.32,1.27) 3(-17.78,-1.27) 4(-17.78,1.27) 5(-15.24,-1.27) 6(-15.24,1.27) 7(-12.7,-1.27) 8(-12.7,1.27) 9(-10.16,-1.27) 10(-10.16,1.27) 11(-7.62,-1.27) 12(-7.62,1.27) 13(-5.08,-1.27) 14(-5.08,1.27) 15(-2.54,-1.27) 16(-2.54,1.27) 17(0,-1.27) 18(0,1.27) 19(2.54,-1.27) 20(2.54,1.27) 21(5.08,-1.27) 22(5.08,1.27) 23(7.62,-1.27) 24(7.62,1.27) 25(10.16,-1.27) 26(10.16,1.27) 27(12.7,-1.27) 28(12.7,1.27) 29(15.24,-1.27) 30(15.24,1.27) 31(17.78,-1.27) 32(17.78,1.27) 33(20.32,-1.27) 34(20.32,1.27)
  round 2.5 hole 2.8 unplated: MH1(-26.16,0.53) MH2(26.16,0.53)
Top Overlay:
  lines w0.2: -35.069,12.722 -33.581,13.218 ; -34.841,12.377 -33.823,12.716 ; -31.438,18.198 -30.873,18.617 cw(c-30.737,18.227) -30.47,18.542 ccw(c-30.417,18.857) -30.098,18.877 -31.157,20.156 ccw(c-31.423,19.899) -31.572,20.238 -32.578,19.388 ; -31.153,7.442 -33.823,12.716 ; -31.006,8.195 -33.581,13.218 ; -29.52,16.204 -35.339,13.199 ; -28.907,15.533 -32.578,19.388 ; -21.545,-1.77 -31.4,-1.77 -31.4,6.23 ; -2.05,5.53 -2.05,12.03 ; -2.04,5.53 2.06,5.53 ; 2.05,5.534 2.05,12.03 ; 21.43,-1.77 31.4,-1.77 31.4,6.23 ; 28.907,15.533 32.578,19.388 ; 29.52,16.204 35.339,13.199 ; 31.006,8.195 33.581,13.218 ; 31.153,7.442 33.823,12.716 ; 31.438,18.198 30.873,18.617 ccw(c30.737,18.227) 30.47,18.542 cw(c30.417,18.857) 30.098,18.877 31.157,20.156 cw(c31.423,19.899) 31.572,20.238 32.578,19.388 ; 34.841,12.377 33.823,12.716 ; 35.069,12.722 33.581,13.218 ; -39.98,19.359 -41.591,19.359 ccw(c-41.591,19.02) -41.9,18.879 -36.145,14.654 -35.339,13.199 ; -39.98,19.359 -39.724,19.83 ; -39.98,19.359 -39.724,19.83 ; -39.724,19.83 -38.98,18.63 -38.38,19.83 -37.73,18.63 -37.11,19.83 -36.41,18.63 -35.86,19.83 -35.11,18.63 -34.48,19.83 -33.45,18.63 -33.043,19.594 cw(c-32.901,19.285) -32.578,19.388 ; -35.339,13.199 -31.4,6.23 ; -33.823,12.716 -33.581,13.218 ; -31.4,6.23 -29.51,15.102 cw(c-28.865,14.83) -28.85,15.53 -24.005,15.53 cw(c-24.005,14.83) -23.305,14.83 -23.305,12.73 ccw(c-22.605,12.73) -22.605,12.03 22.605,12.03 ccw(c22.605,12.73) 23.305,12.73 23.305,14.83 cw(c24.005,14.83) 24.005,15.53 28.85,15.53 cw(c28.865,14.83) 29.51,15.102 31.4,6.23 ; 31.4,6.23 35.339,13.199 ; 32.578,19.388 cw(c32.901,19.285) 33.043,19.594 33.45,18.63 34.48,19.83 35.11,18.63 35.86,19.83 36.41,18.63 37.11,19.83 37.73,18.63 38.38,19.83 38.98,18.63 39.724,19.83 ; 33.581,13.218 33.823,12.716 ; 35.339,13.199 36.145,14.654 41.9,18.879 ccw(c41.591,19.02) 41.591,19.359 39.98,19.359 ; 39.724,19.83 39.98,19.359 ; 39.724,19.83 39.98,19.359
  text "2" at -20.82,2.47 h1.5
  text "1" at -20.57,-3.97 h1.5
  text "34" at 19.07,2.47 h1.5
  text "33" at 19.07,-3.97 h1.5
  text "18" at -1.25,2.47 h1.5
  text "17" at -1.25,-3.97 h1.5
Mechanical 13:
  lines w0.1: -31.438,18.198 -30.873,18.617 cw(c-30.737,18.227) -30.47,18.542 ccw(c-30.417,18.857) -30.098,18.877 -31.157,20.156 ccw(c-31.423,19.899) -31.572,20.238 -32.578,19.388 ; -29.52,16.204 -35.339,13.199 ; -28.907,15.533 -32.578,19.388 ; 28.907,15.533 32.578,19.388 ; 31.438,18.198 30.873,18.617 ccw(c30.737,18.227) 30.47,18.542 cw(c30.417,18.857) 30.098,18.877 31.157,20.156 cw(c31.423,19.899) 31.572,20.238 32.578,19.388 ; -39.98,19.359 -41.591,19.359 ccw(c-41.591,19.02) -41.9,18.879 -36.145,14.654 -35.339,13.199 ; -39.98,19.359 -39.724,19.83 ; -39.98,19.359 -39.724,19.83 ; -39.724,19.83 -38.98,18.63 -38.38,19.83 -37.73,18.63 -37.11,19.83 -36.41,18.63 -35.86,19.83 -35.11,18.63 -34.48,19.83 -33.45,18.63 -33.043,19.594 cw(c-32.901,19.285) -32.578,19.388 ; -35.339,13.199 -31.4,6.23 ; -31.4,6.23 -29.51,15.102 cw(c-28.865,14.83) -28.85,15.53 -24.005,15.53 cw(c-24.005,14.83) -23.305,14.83 -23.305,12.73 ccw(c-22.605,12.73) -22.605,12.03 22.605,12.03 ccw(c22.605,12.73) 23.305,12.73 23.305,14.83 cw(c24.005,14.83) 24.005,15.53 28.85,15.53 cw(c28.865,14.83) 29.51,15.102 31.4,6.23 ; -31.4,6.23 -31.4,-1.77 31.4,-1.77 31.4,6.23 ; 31.4,6.23 35.339,13.199 36.145,14.654 41.9,18.879 ccw(c41.591,19.02) 41.591,19.359 39.98,19.359 ; 32.578,19.388 cw(c32.901,19.285) 33.043,19.594 33.45,18.63 34.48,19.83 35.11,18.63 35.86,19.83 36.41,18.63 37.11,19.83 37.73,18.63 38.38,19.83 38.98,18.63 39.724,19.83 ; 39.724,19.83 39.98,19.359 ; 39.724,19.83 39.98,19.359
3D body: height 8.5, standoff 0, extent -31.401,-1.771 31.401,15.537

## IDC2.54-H34B [mm] "Connector; IDC, Thru-Hole; 34 Position; Right Angle; Pitch 2.54 mm; Body 62.80 x 8.5 x 17.30 mm (LxHxW), Without locking levers"
height 8.5
pads (36):
  rect 1.65x1.65 hole 1: 1(-20.32,-1.27)
  round 1.65 hole 1: 2(-20.32,1.27) 3(-17.78,-1.27) 4(-17.78,1.27) 5(-15.24,-1.27) 6(-15.24,1.27) 7(-12.7,-1.27) 8(-12.7,1.27) 9(-10.16,-1.27) 10(-10.16,1.27) 11(-7.62,-1.27) 12(-7.62,1.27) 13(-5.08,-1.27) 14(-5.08,1.27) 15(-2.54,-1.27) 16(-2.54,1.27) 17(0,-1.27) 18(0,1.27) 19(2.54,-1.27) 20(2.54,1.27) 21(5.08,-1.27) 22(5.08,1.27) 23(7.62,-1.27) 24(7.62,1.27) 25(10.16,-1.27) 26(10.16,1.27) 27(12.7,-1.27) 28(12.7,1.27) 29(15.24,-1.27) 30(15.24,1.27) 31(17.78,-1.27) 32(17.78,1.27) 33(20.32,-1.27) 34(20.32,1.27)
  round 2.5 hole 2.8 unplated: MH1(-26.16,0.53) MH2(26.16,0.53)
Top Overlay:
  lines w0.2: -21.545,-1.77 -31.4,-1.77 -31.4,6.23 -29.51,15.102 cw(c-28.865,14.83) -28.85,15.53 -24.005,15.53 cw(c-24.005,14.83) -23.305,14.83 -23.305,12.73 ccw(c-22.605,12.73) -22.605,12.03 22.605,12.03 ccw(c22.605,12.73) 23.305,12.73 23.305,14.83 cw(c24.005,14.83) 24.005,15.53 28.85,15.53 cw(c28.865,14.83) 29.51,15.102 31.4,6.23 31.4,-1.77 21.43,-1.77 ; -2.05,5.53 -2.05,12.03 ; -2.04,5.53 2.06,5.53 ; 2.05,5.534 2.05,12.03
  text "17" at -1.25,-3.97 h1.5
  text "18" at -1.25,2.47 h1.5
  text "2" at -20.82,2.47 h1.5
  text "1" at -20.57,-3.97 h1.5
  text "34" at 19.07,2.47 h1.5
  text "33" at 19.07,-3.97 h1.5
Mechanical 13:
  lines w0.1: -31.4,-1.77 31.4,-1.77 31.4,6.23 29.51,15.102 ccw(c28.865,14.83) 28.85,15.53 24.005,15.53 ccw(c24.005,14.83) 23.305,14.83 23.305,12.73 cw(c22.605,12.73) 22.605,12.03 -22.605,12.03 cw(c-22.605,12.73) -23.305,12.73 -23.305,14.83 ccw(c-24.005,14.83) -24.005,15.53 -28.85,15.53 ccw(c-28.865,14.83) -29.51,15.102 -31.4,6.23 -31.4,-1.77
3D body: height 8.5, standoff 0, extent -31.401,-1.771 31.401,15.537

## IDC2.54-H34C [mm] "Connector; IDC, Low Profile Male Header, Thru-Hole; 34 Position; Right Angle; Pitch 2.54 mm; Body 50.80 x 8.9 x 9.2 mm (LxWxH)"
height 9.2
pads (34):
  rect 1.65x1.65 hole 1: 1(-20.32,-2.54)
  round 1.65 hole 1: 2(-20.32,0) 3(-17.78,-2.54) 4(-17.78,0) 5(-15.24,-2.54) 6(-15.24,0) 7(-12.7,-2.54) 8(-12.7,0) 9(-10.16,-2.54) 10(-10.16,0) 11(-7.62,-2.54) 12(-7.62,0) 13(-5.08,-2.54) 14(-5.08,0) 15(-2.54,-2.54) 16(-2.54,0) 17(0,-2.54) 18(0,0) 19(2.54,-2.54) 20(2.54,0) 21(5.08,-2.54) 22(5.08,0) 23(7.62,-2.54) 24(7.62,0) 25(10.16,-2.54) 26(10.16,0) 27(12.7,-2.54) 28(12.7,0) 29(15.24,-2.54) 30(15.24,0) 31(17.78,-2.54) 32(17.78,0) 33(20.32,-2.54) 34(20.32,0)
Top Overlay:
  lines w0.2: -21.545,0 -25.4,0 -25.4,9.45 25.4,9.45 25.4,0 21.545,0 ; -2.05,9.45 -2.05,3.48 2.05,3.48 2.05,9.45
  text "33" at 19.07,-5.24 h1.5
  text "34" at 19.07,1.2 h1.5
  text "1" at -20.57,-5.24 h1.5
  text "2" at -20.82,1.2 h1.5
Mechanical 13:
  lines w0.1: -25.4,0 25.4,0 25.4,9.45 -25.4,9.45 -25.4,0
3D body: height 9.2, standoff 0, extent -25.4,0 25.4,9.45

## IDC2.54-H40 [mm] "Connector; IDC, Thru-Hole; 40 Position; Right Angle; Pitch 2.54 mm; Body 70.40 x 8.5 x 25.75 mm (LxHxW), Locking levers"
height 8.5
pads (42):
  rect 1.65x1.65 hole 1: 1(-24.13,-1.27)
  round 1.65 hole 1: 2(-24.13,1.27) 3(-21.59,-1.27) 4(-21.59,1.27) 5(-19.05,-1.27) 6(-19.05,1.27) 7(-16.51,-1.27) 8(-16.51,1.27) 9(-13.97,-1.27) 10(-13.97,1.27) 11(-11.43,-1.27) 12(-11.43,1.27) 13(-8.89,-1.27) 14(-8.89,1.27) 15(-6.35,-1.27) 16(-6.35,1.27) 17(-3.81,-1.27) 18(-3.81,1.27) 19(-1.27,-1.27) 20(-1.27,1.27) 21(1.27,-1.27) 22(1.27,1.27) 23(3.81,-1.27) 24(3.81,1.27) 25(6.35,-1.27) 26(6.35,1.27) 27(8.89,-1.27) 28(8.89,1.27) 29(11.43,-1.27) 30(11.43,1.27) 31(13.97,-1.27) 32(13.97,1.27) 33(16.51,-1.27) 34(16.51,1.27) 35(19.05,-1.27) 36(19.05,1.27) 37(21.59,-1.27) 38(21.59,1.27) 39(24.13,-1.27) 40(24.13,1.27)
  round 2.5 hole 2.8 unplated: MH1(-29.97,0.53) MH2(29.97,0.53)
Top Overlay:
  lines w0.2: -36.17,8.851 -35.205,9.3 ; -36.041,8.563 -35.37,8.877 ; -36.035,21.6 -34.312,22.725 cw(c-34.163,22.387) -33.897,22.644 -32.972,21.245 cw(c-33.292,21.225) -33.344,20.91 ccw(c-33.612,20.595) -33.747,20.985 ; -35.113,20.103 -33.75,20.991 ; -34.843,7.925 -35.37,8.877 ; -34.743,8.378 -35.205,9.3 ; -33.37,15.102 cw(c-32.725,14.83) -32.71,15.53 ; -32.815,16.383 -38.039,13.84 ; -32.65,15.53 ccw(c-32.665,14.83) -33.31,15.102 -35.2,6.23 ; -32.244,15.53 -36.378,22.058 ccw(c-36.701,21.956) -36.843,22.265 -37.25,21.301 -38.28,22.501 -38.91,21.301 -39.66,22.501 -40.21,21.301 -40.91,22.501 -41.53,21.301 -42.18,22.501 -42.78,21.301 -43.525,22.501 ; -25.355,-1.77 -35.2,-1.77 -35.2,6.23 ; -2.05,5.53 -2.05,12.03 ; -2.04,5.53 2.06,5.53 ; 2.05,5.534 2.05,12.03 ; 25.24,-1.77 35.2,-1.77 35.2,6.23 ; 32.244,15.53 36.378,22.058 cw(c36.701,21.956) 36.843,22.265 37.25,21.301 38.28,22.501 38.91,21.301 39.66,22.501 40.21,21.301 40.91,22.501 41.53,21.301 42.18,22.501 42.78,21.301 43.525,22.501 ; 32.65,15.53 cw(c32.665,14.83) 33.31,15.102 35.2,6.23 ; 32.66,15.53 27.8,15.53 ccw(c27.8,14.83) 27.1,14.83 27.1,12.73 cw(c26.4,12.73) 26.4,12.03 -26.4,12.03 cw(c-26.4,12.73) -27.1,12.73 -27.1,14.83 ccw(c-27.8,14.83) -27.8,15.53 ; 32.815,16.383 38.039,13.84 ; 33.747,20.985 ccw(c33.612,20.595) 33.344,20.91 cw(c33.292,21.225) 32.972,21.245 33.897,22.644 cw(c34.163,22.387) 34.312,22.725 36.035,21.6 ; 33.75,20.991 35.113,20.103 ; 34.743,8.378 35.205,9.3 ; 34.843,7.925 35.37,8.877 ; 36.041,8.563 35.37,8.877 ; 36.17,8.851 35.205,9.3 ; -43.78,22.03 -43.525,22.501 ; -43.78,22.03 -43.525,22.501 ; -43.78,22.03 -45.391,22.03 ccw(c-45.391,21.69) -45.7,21.549 -39.165,16.455 -38.039,13.84 ; -38.039,13.84 -35.2,6.23 ; -35.37,8.877 -35.205,9.3 ; -27.8,15.53 -32.66,15.53 -27.8,15.53 ; 35.2,6.23 38.039,13.84 ; 35.205,9.3 35.37,8.877 ; 38.039,13.84 39.165,16.455 45.7,21.549 ccw(c45.391,21.69) 45.391,22.03 43.78,22.03 ; 43.525,22.501 43.78,22.03 ; 43.525,22.501 43.78,22.03
  text "39" at 22.88,-3.97 h1.5
  text "40" at 22.88,2.47 h1.5
  text "1" at -24.38,-3.97 h1.5
  text "2" at -24.63,2.47 h1.5
  text "20" at -2.52,2.47 h1.5
  text "19" at -2.52,-3.97 h1.5
Mechanical 13:
  lines w0.1: -36.035,21.6 -34.312,22.725 cw(c-34.163,22.387) -33.897,22.644 -32.972,21.245 cw(c-33.292,21.225) -33.344,20.91 ccw(c-33.612,20.595) -33.747,20.985 ; -35.113,20.103 -33.75,20.991 ; -33.37,15.102 cw(c-32.725,14.83) -32.71,15.53 ; -32.65,15.53 ccw(c-32.665,14.83) -33.31,15.102 -35.2,6.23 ; -32.244,15.53 -36.378,22.058 ccw(c-36.701,21.956) -36.843,22.265 -37.25,21.301 -38.28,22.501 -38.91,21.301 -39.66,22.501 -40.21,21.301 -40.91,22.501 -41.53,21.301 -42.18,22.501 -42.78,21.301 -43.525,22.501 ; 32.244,15.53 36.378,22.058 cw(c36.701,21.956) 36.843,22.265 37.25,21.301 38.28,22.501 38.91,21.301 39.66,22.501 40.21,21.301 40.91,22.501 41.53,21.301 42.18,22.501 42.78,21.301 43.525,22.501 ; 32.65,15.53 cw(c32.665,14.83) 33.31,15.102 35.2,6.23 ; 32.66,15.53 27.8,15.53 ccw(c27.8,14.83) 27.1,14.83 27.1,12.73 cw(c26.4,12.73) 26.4,12.03 -26.4,12.03 cw(c-26.4,12.73) -27.1,12.73 -27.1,14.83 ccw(c-27.8,14.83) -27.8,15.53 ; 33.747,20.985 ccw(c33.612,20.595) 33.344,20.91 cw(c33.292,21.225) 32.972,21.245 33.897,22.644 cw(c34.163,22.387) 34.312,22.725 36.035,21.6 ; 33.75,20.991 35.113,20.103 ; -43.78,22.03 -43.525,22.501 ; -43.78,22.03 -43.525,22.501 ; -43.78,22.03 -45.391,22.03 ccw(c-45.391,21.69) -45.7,21.549 -39.165,16.455 -38.039,13.84 -35.2,6.23 ; -35.2,6.23 -35.2,-1.77 35.2,-1.77 35.2,6.23 ; -27.8,15.53 -32.66,15.53 -27.8,15.53 ; 35.2,6.23 38.039,13.84 39.165,16.455 45.7,21.549 ccw(c45.391,21.69) 45.391,22.03 43.78,22.03 ; 43.525,22.501 43.78,22.03 ; 43.525,22.501 43.78,22.03
3D body: height 8.5, standoff 0, extent -35.2,-1.801 35.201,15.506

## IDC2.54-H40A [mm] "Connector; IDC, Thru-Hole; 40 Position; Right Angle; Pitch 2.54 mm; Body 70.40 x 8.5 x 23.30 mm (LxHxW), Locking levers"
height 8.5
pads (42):
  rect 1.65x1.65 hole 1: 1(-24.13,-1.27)
  round 1.65 hole 1: 2(-24.13,1.27) 3(-21.59,-1.27) 4(-21.59,1.27) 5(-19.05,-1.27) 6(-19.05,1.27) 7(-16.51,-1.27) 8(-16.51,1.27) 9(-13.97,-1.27) 10(-13.97,1.27) 11(-11.43,-1.27) 12(-11.43,1.27) 13(-8.89,-1.27) 14(-8.89,1.27) 15(-6.35,-1.27) 16(-6.35,1.27) 17(-3.81,-1.27) 18(-3.81,1.27) 19(-1.27,-1.27) 20(-1.27,1.27) 21(1.27,-1.27) 22(1.27,1.27) 23(3.81,-1.27) 24(3.81,1.27) 25(6.35,-1.27) 26(6.35,1.27) 27(8.89,-1.27) 28(8.89,1.27) 29(11.43,-1.27) 30(11.43,1.27) 31(13.97,-1.27) 32(13.97,1.27) 33(16.51,-1.27) 34(16.51,1.27) 35(19.05,-1.27) 36(19.05,1.27) 37(21.59,-1.27) 38(21.59,1.27) 39(24.13,-1.27) 40(24.13,1.27)
  round 2.5 hole 2.8 unplated: MH1(-29.97,0.53) MH2(29.97,0.53)
Top Overlay:
  lines w0.2: -38.869,12.722 -37.381,13.218 ; -38.641,12.377 -37.623,12.716 ; -35.238,18.198 -34.673,18.617 cw(c-34.537,18.227) -34.27,18.542 ccw(c-34.217,18.857) -33.898,18.877 -34.957,20.156 ccw(c-35.223,19.899) -35.372,20.238 -36.378,19.388 ; -34.953,7.442 -37.623,12.716 ; -34.806,8.195 -37.381,13.218 ; -33.37,15.102 cw(c-32.725,14.83) -32.71,15.53 ; -33.32,16.204 -39.139,13.199 ; -32.707,15.533 -36.378,19.388 ; -32.65,15.53 ccw(c-32.665,14.83) -33.31,15.102 -35.2,6.23 ; -25.355,-1.77 -35.2,-1.77 -35.2,6.23 ; -2.05,5.53 -2.05,12.03 ; -2.04,5.53 2.06,5.53 ; 2.05,5.534 2.05,12.03 ; 25.24,-1.77 35.2,-1.77 35.2,6.23 ; 32.65,15.53 cw(c32.665,14.83) 33.31,15.102 35.2,6.23 ; 32.66,15.53 27.8,15.53 ccw(c27.8,14.83) 27.1,14.83 27.1,12.73 cw(c26.4,12.73) 26.4,12.03 -26.4,12.03 cw(c-26.4,12.73) -27.1,12.73 -27.1,14.83 ccw(c-27.8,14.83) -27.8,15.53 ; 32.707,15.533 36.378,19.388 ; 33.32,16.204 39.139,13.199 ; 34.806,8.195 37.381,13.218 ; 34.953,7.442 37.623,12.716 ; 35.238,18.198 34.673,18.617 ccw(c34.537,18.227) 34.27,18.542 cw(c34.217,18.857) 33.898,18.877 34.957,20.156 cw(c35.223,19.899) 35.372,20.238 36.378,19.388 ; 38.641,12.377 37.623,12.716 ; 38.869,12.722 37.381,13.218 ; -43.78,19.359 -43.524,19.83 ; -43.78,19.359 -43.524,19.83 ; -43.78,19.359 -45.391,19.359 ccw(c-45.391,19.02) -45.7,18.879 -39.945,14.654 -39.139,13.199 ; -43.524,19.83 -42.78,18.63 -42.18,19.83 -41.53,18.63 -40.91,19.83 -40.21,18.63 -39.66,19.83 -38.91,18.63 -38.28,19.83 -37.25,18.63 -36.843,19.594 cw(c-36.701,19.285) -36.378,19.388 ; -39.139,13.199 -35.2,6.23 ; -37.623,12.716 -37.381,13.218 ; -27.8,15.53 -32.66,15.53 -27.8,15.53 ; 35.2,6.23 39.139,13.199 ; 36.378,19.388 cw(c36.701,19.285) 36.843,19.594 37.25,18.63 38.28,19.83 38.91,18.63 39.66,19.83 40.21,18.63 40.91,19.83 41.53,18.63 42.18,19.83 42.78,18.63 43.524,19.83 ; 37.381,13.218 37.623,12.716 ; 39.139,13.199 39.945,14.654 45.7,18.879 ccw(c45.391,19.02) 45.391,19.359 43.78,19.359 ; 43.524,19.83 43.78,19.359 ; 43.524,19.83 43.78,19.359
  text "19" at -2.52,-3.97 h1.5
  text "20" at -2.52,2.47 h1.5
  text "2" at -24.63,2.47 h1.5
  text "1" at -24.38,-3.97 h1.5
  text "40" at 22.88,2.47 h1.5
  text "39" at 22.88,-3.97 h1.5
Mechanical 13:
  lines w0.1: -35.238,18.198 -34.673,18.617 cw(c-34.537,18.227) -34.27,18.542 ccw(c-34.217,18.857) -33.898,18.877 -34.957,20.156 ccw(c-35.223,19.899) -35.372,20.238 -36.378,19.388 ; -33.37,15.102 cw(c-32.725,14.83) -32.71,15.53 ; -32.707,15.533 -36.378,19.388 ; -32.65,15.53 ccw(c-32.665,14.83) -33.31,15.102 -35.2,6.23 ; 32.65,15.53 cw(c32.665,14.83) 33.31,15.102 35.2,6.23 ; 32.66,15.53 27.8,15.53 ccw(c27.8,14.83) 27.1,14.83 27.1,12.73 cw(c26.4,12.73) 26.4,12.03 -26.4,12.03 cw(c-26.4,12.73) -27.1,12.73 -27.1,14.83 ccw(c-27.8,14.83) -27.8,15.53 ; 32.707,15.533 36.378,19.388 ; 35.238,18.198 34.673,18.617 ccw(c34.537,18.227) 34.27,18.542 cw(c34.217,18.857) 33.898,18.877 34.957,20.156 cw(c35.223,19.899) 35.372,20.238 36.378,19.388 ; -43.78,19.359 -43.524,19.83 ; -43.78,19.359 -45.391,19.359 ccw(c-45.391,19.02) -45.7,18.879 -39.945,14.654 -39.139,13.199 -35.2,6.23 ; -43.78,19.359 -43.524,19.83 ; -43.524,19.83 -42.78,18.63 -42.18,19.83 -41.53,18.63 -40.91,19.83 -40.21,18.63 -39.66,19.83 -38.91,18.63 -38.28,19.83 -37.25,18.63 -36.843,19.594 cw(c-36.701,19.285) -36.378,19.388 ; -35.2,6.23 -35.2,-1.77 35.2,-1.77 35.2,6.23 ; -27.8,15.53 -32.66,15.53 -27.8,15.53 ; 35.2,6.23 39.139,13.199 39.945,14.654 45.7,18.879 ccw(c45.391,19.02) 45.391,19.359 43.78,19.359 ; 36.378,19.388 cw(c36.701,19.285) 36.843,19.594 37.25,18.63 38.28,19.83 38.91,18.63 39.66,19.83 40.21,18.63 40.91,19.83 41.53,18.63 42.18,19.83 42.78,18.63 43.524,19.83 ; 43.524,19.83 43.78,19.359 ; 43.524,19.83 43.78,19.359
3D body: height 8.5, standoff 0, extent -35.2,-1.801 35.201,15.506

## IDC2.54-H40B [mm] "Connector; IDC, Thru-Hole; 40 Position; Right Angle; Pitch 2.54 mm; Body 70.40 x 8.5 x 17.30 mm (LxHxW), Without locking levers"
height 8.5
pads (42):
  rect 1.65x1.65 hole 1: 1(-24.13,-1.27)
  round 1.65 hole 1: 2(-24.13,1.27) 3(-21.59,-1.27) 4(-21.59,1.27) 5(-19.05,-1.27) 6(-19.05,1.27) 7(-16.51,-1.27) 8(-16.51,1.27) 9(-13.97,-1.27) 10(-13.97,1.27) 11(-11.43,-1.27) 12(-11.43,1.27) 13(-8.89,-1.27) 14(-8.89,1.27) 15(-6.35,-1.27) 16(-6.35,1.27) 17(-3.81,-1.27) 18(-3.81,1.27) 19(-1.27,-1.27) 20(-1.27,1.27) 21(1.27,-1.27) 22(1.27,1.27) 23(3.81,-1.27) 24(3.81,1.27) 25(6.35,-1.27) 26(6.35,1.27) 27(8.89,-1.27) 28(8.89,1.27) 29(11.43,-1.27) 30(11.43,1.27) 31(13.97,-1.27) 32(13.97,1.27) 33(16.51,-1.27) 34(16.51,1.27) 35(19.05,-1.27) 36(19.05,1.27) 37(21.59,-1.27) 38(21.59,1.27) 39(24.13,-1.27) 40(24.13,1.27)
  round 2.5 hole 2.8 unplated: MH1(-29.97,0.53) MH2(29.97,0.53)
Top Overlay:
  lines w0.2: -32.71,15.53 ccw(c-32.725,14.83) -33.37,15.102 -35.2,6.23 -35.2,-1.77 -25.355,-1.77 ; -32.66,15.53 -27.8,15.53 cw(c-27.8,14.83) -27.1,14.83 -27.1,12.73 ccw(c-26.4,12.73) -26.4,12.03 26.4,12.03 ccw(c26.4,12.73) 27.1,12.73 27.1,14.83 cw(c27.8,14.83) 27.8,15.53 32.66,15.53 ; -2.05,5.53 -2.05,12.03 ; -2.04,5.53 2.06,5.53 ; 2.05,5.534 2.05,12.03 ; 25.24,-1.77 35.2,-1.77 35.2,6.23 33.37,15.102 ccw(c32.725,14.83) 32.71,15.53
  text "19" at -2.52,-3.97 h1.5
  text "20" at -2.52,2.47 h1.5
  text "2" at -24.63,2.47 h1.5
  text "1" at -24.38,-3.97 h1.5
  text "40" at 22.88,2.47 h1.5
  text "39" at 22.88,-3.97 h1.5
Mechanical 13:
  lines w0.1: -32.71,15.53 ccw(c-32.725,14.83) -33.37,15.102 -35.2,6.23 -35.2,-1.77 35.2,-1.77 35.2,6.23 33.37,15.102 ccw(c32.725,14.83) 32.71,15.53 ; -32.66,15.53 -27.8,15.53 cw(c-27.8,14.83) -27.1,14.83 -27.1,12.73 ccw(c-26.4,12.73) -26.4,12.03 26.4,12.03 ccw(c26.4,12.73) 27.1,12.73 27.1,14.83 cw(c27.8,14.83) 27.8,15.53 32.66,15.53
3D body: height 8.5, standoff 0, extent -35.2,-1.801 35.201,15.506

## IDC2.54-H40C [mm] "Connector; IDC, Low Profile Male Header, Thru-Hole; 40 Position; Right Angle; Pitch 2.54 mm; Body 58.42 x 8.9 x 9.2 mm (LxWxH)"
height 9.2
pads (40):
  rect 1.65x1.65 hole 1: 1(-24.13,-2.54)
  round 1.65 hole 1: 2(-24.13,0) 3(-21.59,-2.54) 4(-21.59,0) 5(-19.05,-2.54) 6(-19.05,0) 7(-16.51,-2.54) 8(-16.51,0) 9(-13.97,-2.54) 10(-13.97,0) 11(-11.43,-2.54) 12(-11.43,0) 13(-8.89,-2.54) 14(-8.89,0) 15(-6.35,-2.54) 16(-6.35,0) 17(-3.81,-2.54) 18(-3.81,0) 19(-1.27,-2.54) 20(-1.27,0) 21(1.27,-2.54) 22(1.27,0) 23(3.81,-2.54) 24(3.81,0) 25(6.35,-2.54) 26(6.35,0) 27(8.89,-2.54) 28(8.89,0) 29(11.43,-2.54) 30(11.43,0) 31(13.97,-2.54) 32(13.97,0) 33(16.51,-2.54) 34(16.51,0) 35(19.05,-2.54) 36(19.05,0) 37(21.59,-2.54) 38(21.59,0) 39(24.13,-2.54) 40(24.13,0)
Top Overlay:
  lines w0.2: -25.355,0 -29.21,0 -29.21,9.45 29.21,9.45 29.21,0 25.355,0 ; -2.05,9.45 -2.05,3.48 2.05,3.48 2.05,9.45
  text "19" at -2.52,-5.24 h1.5
  text "20" at -2.52,1.2 h1.5
  text "2" at -24.63,1.2 h1.5
  text "1" at -24.38,-5.24 h1.5
  text "40" at 22.88,1.2 h1.5
  text "39" at 22.88,-5.24 h1.5
Mechanical 13:
  lines w0.1: -29.21,0 -29.21,9.45 29.21,9.45 29.21,0 -29.21,0
3D body: height 9.2, standoff 0, extent -29.21,0 29.21,9.45